# Altium integrated library Connector Header Through Hole 5 position.IntLib: 1 symbol
Pins are listed as number, name and electrical type; pins without a type are passive.

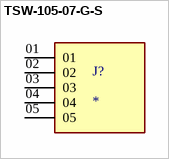
[diagram p0: symbol TSW-105-07-G-S]

## TSW-105-07-G-S
designator J?
MP: TSW-105-07-G-S; MF: Samtec Inc.; Package: None; Price: None; Availability: Unavailable; Value: *
footprint SAMTEC_TSW-105-07-G-S
pins: 01, 02, 03, 04, 05